# Altium schematic symbol library SRP7028CC-6R8M.SchLib: 1 symbol
Pins are listed as number, name and electrical type; pins without a type are passive.

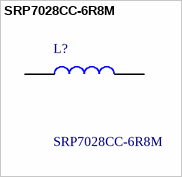
[diagram p0: symbol SRP7028CC-6R8M]

## SRP7028CC-6R8M
designator L?
Ind,7.3x6.6x2.8mm,6.8uH+/-20%,4.5A,shd; Manufacturer_Name: Bourns; Geometry.Height: 3mm; Mouser Part Number: 652-SRP7028CC-6R8M; Mouser Price/Stock: https://www.mouser.co.uk/ProductDetail/Bourns/SRP7028CC-6R8M?qs=1Kr7Jg1SGW%252BIPAy4fg1YuQ%3D%3D; Manufacturer_Part_Number: SRP7028CC-6R8M; Datasheet Link: https://www.bourns.com/docs/Product-Datasheets/SRP7028CC.pdf
footprint INDPM7366X300N
pins: 1, 2